# Altium footprint library Mypcb.PcbLib: 144 footprints (part 7 of 9)
Each footprint in its own frame and in the unit in brackets; x right, y up, seen from the top. Pads: shape width x height; smd on the part's side, far side on the other; paste and mask are expansions set on the pad; w line width, h text height; cw(c..) or ccw(c..) is an arc to the next point about the centre after c.
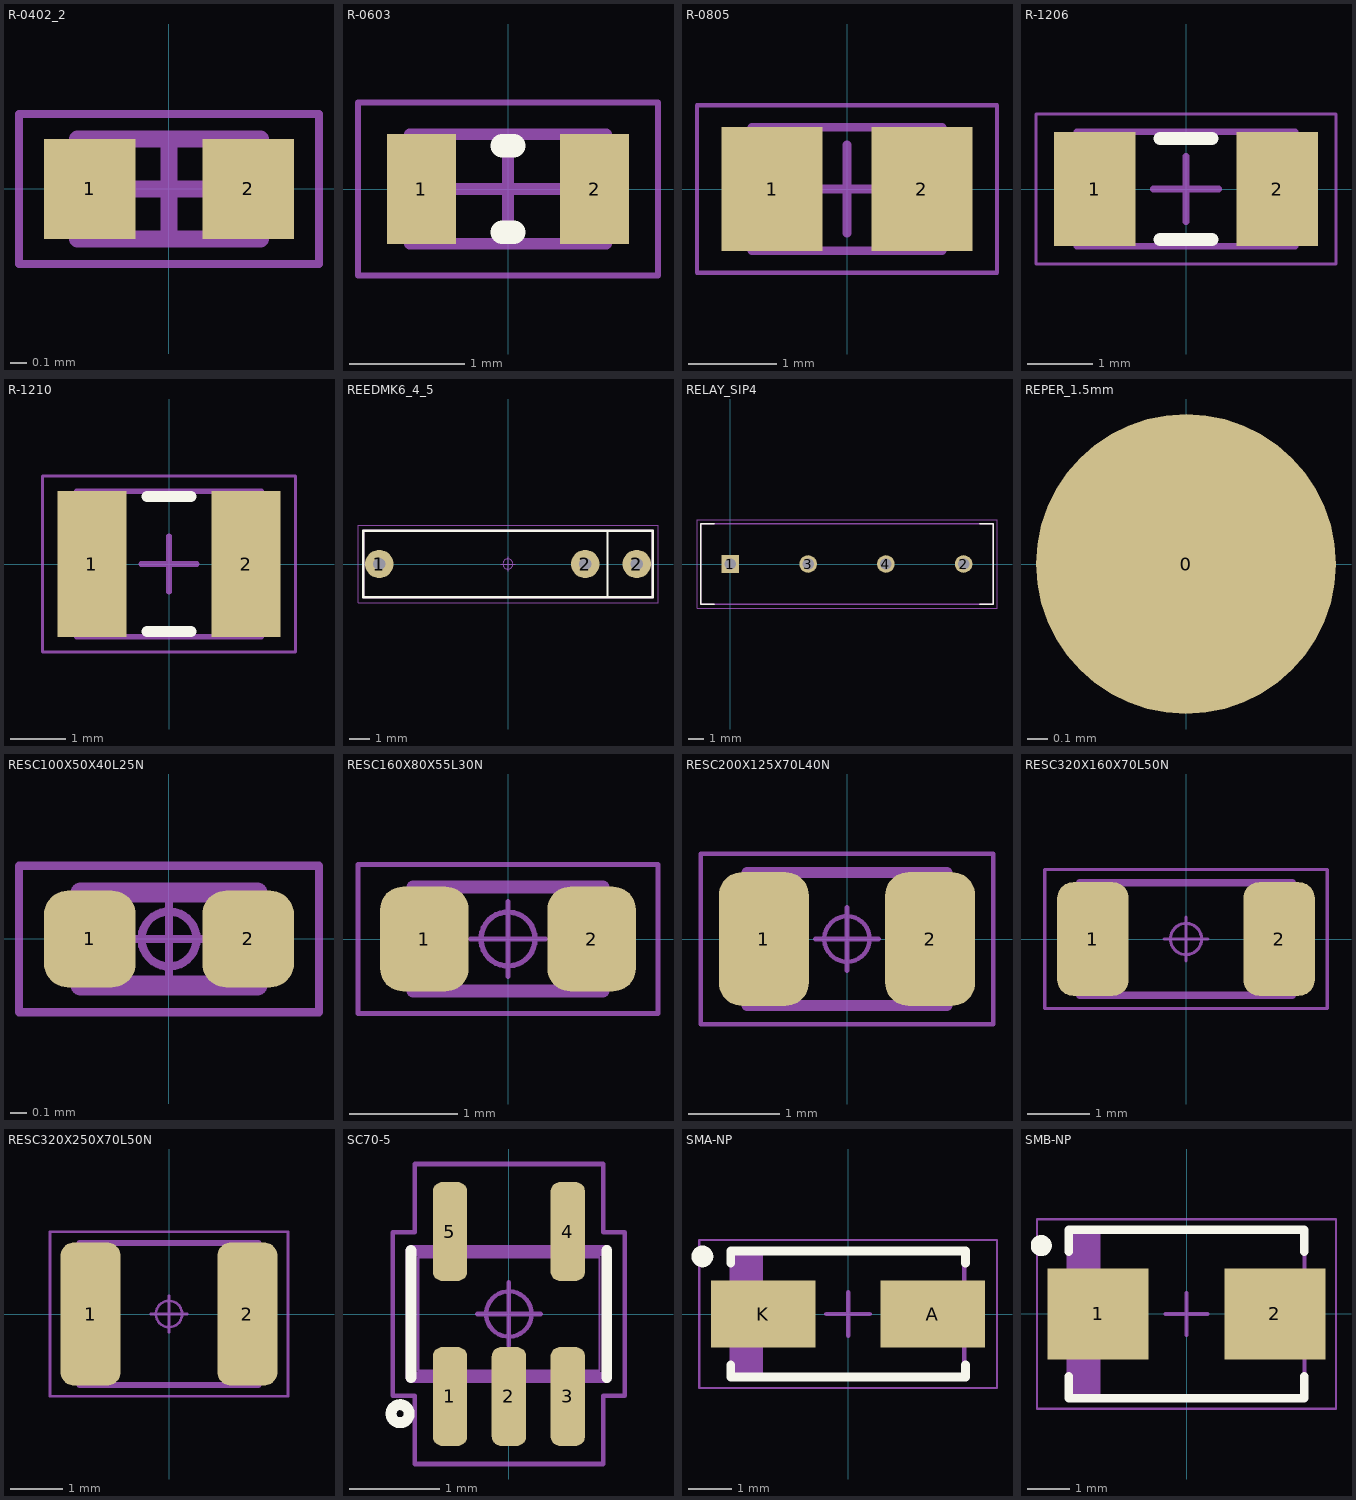
[diagram p6: the footprints below, top view; thin cyan lines are the x and y axes]

## R-0402_2 [mm]
pads (2):
  rect 0.55x0.6 smd: 1(-0.475,0) 2(0.475,0)
Mechanical 13:
  lines w0.1: -0.55,-0.3 0.55,-0.3 0.55,0.3 -0.55,0.3 -0.55,-0.3
Mechanical 15:
  lines w0.05: -0.9,-0.45 -0.9,0.45 0.9,0.45 0.9,-0.45 -0.9,-0.45
  lines w0.1: -0.3,0 0.3,0 ; 0,-0.3 0,0.3
3D body: height 0.5, standoff 0, extent -0.55,-0.3 -0.35,0.3
3D body: height 0.5, standoff 0, extent -0.35,-0.3 0.35,0.3
3D body: height 0.5, standoff 0, extent 0.35,-0.3 0.55,0.3

## R-0603 [mm] "Chip Resistor, 2-Leads, Body 1,60x0,82mm, IPC Medium Density"
height 0.6
pads (2):
  rect 0.6x0.95 smd: 1(-0.75,0) 2(0.75,0)
Top Overlay:
  lines w0.2: -0.05,-0.375 0.05,-0.375 ; -0.05,0.375 0.05,0.375
Mechanical 13:
  lines w0.1: -0.85,-0.475 -0.85,0.475 0.85,0.475 0.85,-0.475 -0.85,-0.475
Mechanical 15:
  lines w0.05: -1.3,-0.75 -1.3,0.75 1.3,0.75 1.3,-0.75 -1.3,-0.75
  lines w0.1: -0.475,0 0.475,0 ; 0,-0.475 0,0.475
3D body: height 0.6, standoff 0, extent -0.65,-0.475 0.65,0.475
3D body: height 0.6, standoff 0, extent -0.85,-0.475 -0.65,0.475
3D body: height 0.6, standoff 0, extent 0.65,-0.475 0.85,0.475

## R-0805 [mm] "Chip Resistor, 2-Leads, Body 2,00x1,25mm, IPC Medium Density"
height 0.65
pads (2):
  rect 1.15x1.4 smd: 1(-0.85,0) 2(0.85,0)
Mechanical 13:
  lines w0.1: -1.075,-0.7 1.075,-0.7 1.075,0.7 -1.075,0.7 -1.075,-0.7
Mechanical 15:
  lines w0.05: -1.7,-0.95 1.7,-0.95 1.7,0.95 -1.7,0.95 -1.7,-0.95
  lines w0.1: -0.5,0 0.5,0 ; 0,-0.5 0,0.5
3D body: height 0.65, standoff 0, extent 0.675,-0.7 1.075,0.7
3D body: height 0.65, standoff 0, extent -1.075,-0.7 -0.675,0.7
3D body: height 0.65, standoff 0, extent -0.675,-0.7 0.675,0.7

## R-1206 [mm] "Chip Resistor, 2-Leads, Body 3,20x1,60mm, IPC Medium Density"
height 0.71
pads (2):
  rect 1.25x1.75 smd: 1(-1.4,0) 2(1.4,0)
Top Overlay:
  lines w0.2: -0.4,-0.775 0.4,-0.775 ; -0.4,0.775 0.4,0.775
Mechanical 13:
  lines w0.1: -1.675,-0.875 1.675,-0.875 1.675,0.875 -1.675,0.875 -1.675,-0.875
Mechanical 15:
  lines w0.05: -2.3,-1.15 2.3,-1.15 2.3,1.15 -2.3,1.15 -2.3,-1.15
  lines w0.1: -0.5,0 0.5,0 ; 0,-0.5 0,0.5
3D body: height 0.71, standoff 0, extent 1.175,-0.875 1.675,0.875
3D body: height 0.71, standoff 0, extent -1.675,-0.875 -1.175,0.875
3D body: height 0.71, standoff 0, extent -1.175,-0.875 1.175,0.875

## R-1210 [mm] "Chip Resistor, 2-Leads, Body 3,20x2,49mm, IPC Medium Density"
height 0.71
pads (2):
  rect 1.25x2.65 smd: 1(-1.4,0) 2(1.4,0)
Top Overlay:
  lines w0.2: -0.4,-1.225 0.4,-1.225 ; -0.4,1.225 0.4,1.225
Mechanical 13:
  lines w0.1: -1.675,-1.32 1.675,-1.32 1.675,1.32 -1.675,1.32 -1.675,-1.32
Mechanical 15:
  lines w0.05: -2.3,-1.6 2.3,-1.6 2.3,1.6 -2.3,1.6 -2.3,-1.6
  lines w0.1: -0.5,0 0.5,0 ; 0,-0.5 0,0.5
3D body: height 0.71, standoff 0, extent 1.175,-1.32 1.675,1.32
3D body: height 0.71, standoff 0, extent -1.675,-1.32 -1.175,1.32
3D body: height 0.71, standoff 0, extent -1.175,-1.32 1.175,1.32

## REEDMK6_4_5 [mm] "Resistor, Radial (Molded); 12.70 mm C X 0.30 mm W 14.30 mm L X 3.30 mm T X 3.30 mm H body"
height 3.3
pads (3):
  round 1.4 hole 0.6 paste-0.92: 1(-6.35,0) 2(6.35,0)
  round 1.4 hole 0.6: 2(3.81,0)
Top Overlay:
  lines w0.12: 4.91,-1.65 4.91,1.65 ; -7.15,-1.65 -7.15,1.65 7.15,1.65 7.15,-1.65 -7.15,-1.65
Mechanical 11:
  lines w0.12: -7.15,-1.65 -7.15,1.65 7.15,1.65 7.15,-1.65 -7.15,-1.65
Mechanical 12:
  circle w0.025: c-6.35,0 r0.16
  circle w0.025: c6.35,0 r0.16
  lines w0.025: -7.15,-1.65 -7.15,1.65 7.15,1.65 7.15,-1.65 -7.15,-1.65
Mechanical 15:
  circle w0.05: c0,0 r0.25
  lines w0.05: -0.35,0 0.35,0 ; 0,-0.35 0,0.35 ; -7.4,-1.9 -7.4,1.9 7.4,1.9 7.4,-1.9 -7.4,-1.9
3D body "REEDMK6_4_5.STEP": height 3.3, standoff -2, extent -7.15,-1.65 7.15,1.65

## RELAY_SIP4 [mm] "SIP, 5.08 mm pitch; 4 pin, 19.10 mm L X 5.25 mm W X 8.10 mm H body"
height 8.1
pads (4):
  rect 1.15x1.15 hole 0.75 paste-1.15: 1(0,0)
  round 1.15 hole 0.75 paste-1.15: 2(15.24,0) 3(5.08,0) 4(10.16,0)
Top Overlay:
  lines w0.12: -1.08,-2.63 -1.93,-2.63 -1.93,2.63 -1.08,2.63 ; 16.32,-2.63 17.17,-2.63 17.17,2.63 16.32,2.63
Mechanical 11:
  lines w0.12: -1.93,-2.63 -1.93,2.63 17.17,2.63 17.17,-2.63 -1.93,-2.63
Mechanical 12:
  lines w0.025: -1.93,-2.625 -1.93,2.625 17.17,2.625 17.17,-2.625 -1.93,-2.625 ; -0.255,-0.155 0.255,-0.155 0.255,0.155 -0.255,0.155 -0.255,-0.155 ; 4.825,-0.155 5.335,-0.155 5.335,0.155 4.825,0.155 4.825,-0.155 ; 9.905,-0.155 10.415,-0.155 10.415,0.155 9.905,0.155 9.905,-0.155 ; 14.985,-0.155 15.495,-0.155 15.495,0.155 14.985,0.155 14.985,-0.155
Mechanical 15:
  circle w0.05: c0,0 r0.25
  lines w0.05: -0.35,0 0.35,0 ; 0,-0.35 0,0.35 ; -2.18,-2.88 -2.18,2.88 17.42,2.88 17.42,-2.88 -2.18,-2.88
3D body "SIP525W46P508L1910H810Q4.STEP": height 8.1, standoff -2, extent -1.93,-2.625 17.17,2.625

## REPER_1.5mm [mm]
pads (1):
  round 1.5 smd paste-0.8 mask+0.4: 0(0,0)

## RESC100X50X40L25N [mm] "Resistor, Chip; 1.00 mm L X 0.50 mm W X 0.40 mm H body"
height 0.4
pads (2):
  rrect51% 0.55x0.58 smd paste-0.58 mask+0: 1(-0.475,0) 2(0.475,0)
Mechanical 13:
  lines w0.12: -0.53,-0.28 0.53,-0.28 0.53,0.28 -0.53,0.28 -0.53,-0.28
Mechanical 15:
  circle w0.05: c0,0 r0.165
  lines w0.05: -0.22,0 0.22,0 ; 0,-0.22 0,0.22 ; -0.9,-0.44 0.9,-0.44 0.9,0.44 -0.9,0.44 -0.9,-0.44
3D body "RES-0402.stp": height 0.34, standoff 0, extent -0.5,-0.25 0.5,0.25

## RESC160X80X55L30N [mm] "Resistor, Chip; 1.60 mm L X 0.80 mm W X 0.55 mm H body"
height 0.55
pads (2):
  rrect51% 0.82x0.97 smd paste-0.97 mask+0: 1(-0.775,0) 2(0.775,0)
Mechanical 13:
  lines w0.12: -0.88,-0.48 -0.88,0.48 0.88,0.48 0.88,-0.48 -0.88,-0.48
Mechanical 15:
  circle w0.05: c0,0 r0.25
  lines w0.05: -0.345,0 0.345,0 ; 0,-0.345 0,0.345 ; -1.39,-0.69 -1.39,0.69 1.39,0.69 1.39,-0.69 -1.39,-0.69
3D body "RES-0603.stp": height 0.43, standoff 0, extent -0.8,-0.4 0.8,0.4

## RESC200X125X70L40N [mm] "Resistor, Chip; 2.00 mm L X 1.25 mm W X 0.70 mm H body"
height 0.7
pads (2):
  rrect51% 0.99x1.47 smd paste-1.47 mask+0: 1(-0.915,0) 2(0.915,0)
Mechanical 13:
  lines w0.12: -1.1,-0.73 1.1,-0.73 1.1,0.73 -1.1,0.73 -1.1,-0.73
Mechanical 15:
  circle w0.05: c0,0 r0.25
  lines w0.05: -0.35,0 0.35,0 ; 0,-0.35 0,0.35 ; -1.61,-0.94 1.61,-0.94 1.61,0.94 -1.61,0.94 -1.61,-0.94
3D body "RES-0805.stp": height 0.58, standoff 0, extent -1,-0.625 1,0.625

## RESC320X160X70L50N [mm] "Resistor, Chip; 3.20 mm L X 1.60 mm W X 0.70 mm H body"
height 0.7
pads (2):
  rrect44% 1.14x1.82 smd paste-1.82 mask+0: 1(-1.49,0) 2(1.49,0)
Mechanical 13:
  lines w0.12: -1.7,-0.9 -1.7,0.9 1.7,0.9 1.7,-0.9 -1.7,-0.9
Mechanical 15:
  circle w0.05: c0,0 r0.25
  lines w0.05: -0.35,0 0.35,0 ; 0,-0.35 0,0.35 ; -2.26,-1.11 -2.26,1.11 2.26,1.11 2.26,-1.11 -2.26,-1.11
3D body "RES-1206.stp": height 0.58, standoff 0, extent -1.6,-0.8 1.6,0.8

## RESC320X250X70L50N [mm] "Resistor, Chip; 3.20 mm L X 2.50 mm W X 0.70 mm H body"
height 0.7
pads (2):
  rrect44% 1.14x2.72 smd paste-2.72 mask+0: 1(-1.49,0) 2(1.49,0)
Mechanical 13:
  lines w0.12: -1.7,-1.35 -1.7,1.35 1.7,1.35 1.7,-1.35 -1.7,-1.35
Mechanical 15:
  circle w0.05: c0,0 r0.25
  lines w0.05: -0.35,0 0.35,0 ; 0,-0.35 0,0.35 ; -2.26,-1.56 -2.26,1.56 2.26,1.56 2.26,-1.56 -2.26,-1.56
3D body "RES-1210.stp": height 0.58, standoff 0, extent -1.6,-1.25 1.6,1.25

## SC70-5 [mm] "Small Outline Transistor (SOT23), 0.65 mm pitch; 5 pin, 2.00 mm L X 1.25 mm W X 1.10 mm H body"
height 1.1
pads (5):
  rrect53% 0.38x1.09 smd: 1(-0.65,-0.91) 2(0,-0.91) 3(0.65,-0.91) 4(0.65,0.91) 5(-0.65,0.91)
Top Overlay:
  circle w0.12: c-1.2,-1.1 r0.1
  lines w0.12: -1.08,-0.7 -1.08,0.7 ; 1.08,-0.7 1.08,0.7
Mechanical 11:
  lines w0.12: -1.08,-0.7 1.08,-0.7 1.08,0.7 -1.08,0.7 -1.08,-0.7
Mechanical 12:
  lines w0.025: -1,-0.625 1,-0.625 1,0.625 -1,0.625 -1,-0.625 ; -0.763,-1.05 -0.763,-0.69 -0.537,-0.69 -0.537,-1.05 -0.763,-1.05 ; -0.763,0.69 -0.763,1.05 -0.537,1.05 -0.537,0.69 -0.763,0.69 ; -0.112,-1.05 -0.112,-0.69 0.112,-0.69 0.112,-1.05 -0.112,-1.05 ; 0.537,-1.05 0.537,-0.69 0.763,-0.69 0.763,-1.05 0.537,-1.05 ; 0.537,0.69 0.537,1.05 0.763,1.05 0.763,0.69 0.537,0.69
Mechanical 15:
  circle w0.05: c0,0 r0.25
  lines w0.05: -0.35,0 0.35,0 ; 0,-0.35 0,0.35 ; -1.28,-0.9 -1.04,-0.9 -1.04,-1.655 1.04,-1.655 1.04,-0.9 1.28,-0.9 1.28,0.9 1.04,0.9 1.04,1.655 -1.04,1.655 -1.04,0.9 -1.28,0.9 -1.28,-0.9
3D body "SC70-5.STEP": height 1.1, standoff 0, extent -1,-1.05 1,1.05

## SMA-NP [mm] "Molded Diode, 2-Leads, Body 5,07x2,57mm, IPC Medium Density"
height 2.65
pads (2):
  rect 2.4x1.55 smd: A(1.95,0) K(-1.95,0)
Top Overlay:
  circle w0.25: c-3.35,1.325 r0.125
  lines w0.2: -2.7,-1.175 -2.7,-1.45 2.7,-1.45 2.7,-1.175 ; -2.7,1.175 -2.7,1.45 2.7,1.45 2.7,1.175
Mechanical 13:
  rectangle: -2.675,-1.45 -1.955,1.45
  lines w0.1: -2.675,-1.45 -2.675,1.45 2.675,1.45 2.675,-1.45 -2.675,-1.45
Mechanical 15:
  lines w0.05: -3.425,-1.7 -3.425,1.7 3.425,1.7 3.425,-1.7 -3.425,-1.7
  lines w0.1: -0.5,0 0.5,0 ; 0,-0.5 0,0.5
3D body "DIOM5126X26N.step": height 2.65, standoff 0, extent -2.895,-1.45 2.895,1.45

## SMB-NP [mm] "Molded Diode, 2-Leads, Body 5,35x3,63mm, IPC Medium Density"
height 2.65
pads (2):
  rect 2.4x2.15 smd: 1(-2.1,0) 2(2.1,0)
Top Overlay:
  circle w0.25: c-3.45,1.625 r0.125
  lines w0.2: -2.8,-1.475 -2.8,-2 2.8,-2 2.8,-1.475 ; -2.8,1.475 -2.8,2 2.8,2 2.8,1.475
Mechanical 13:
  rectangle: -2.8,-1.975 -2.047,1.975
  lines w0.1: -2.8,-1.975 -2.8,1.975 2.8,1.975 2.8,-1.975 -2.8,-1.975
Mechanical 15:
  lines w0.05: -3.55,-2.25 -3.55,2.25 3.55,2.25 3.55,-2.25 -3.55,-2.25
  lines w0.1: -0.5,0 0.5,0 ; 0,-0.5 0,0.5
3D body "DIOM5336X26N.step": height 2.65, standoff 0, extent -3.02,-1.975 3.02,1.975